# Altium integrated library Linear Technology Power Management Battery Management.IntLib: 626 symbols (part 14 of 56)
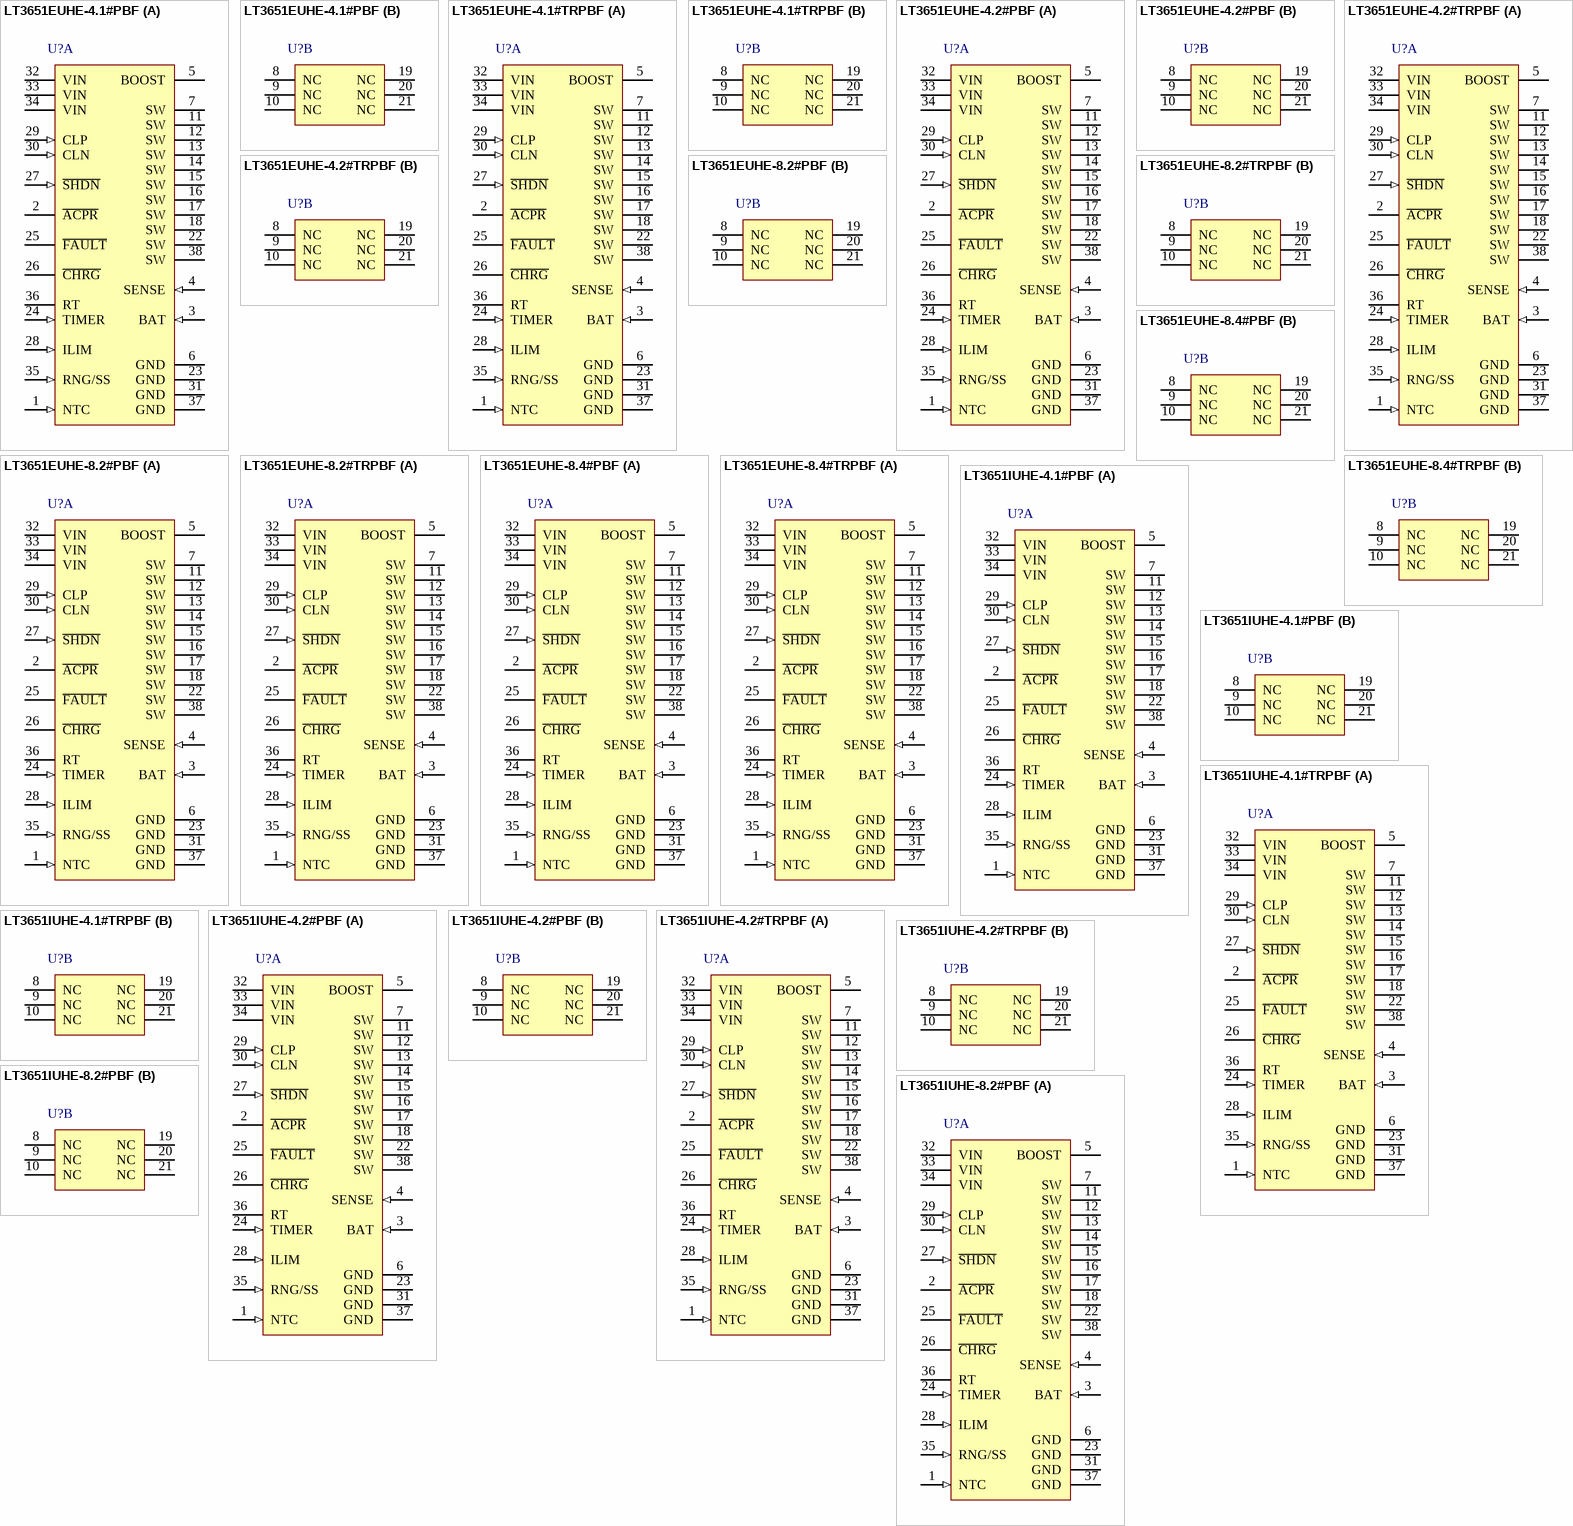
[diagram p35: symbols LT3651EUHE-4.1#PBF to LT3651IUHE-8.2#PBF]

## LT3651EUHE-4.2#PBF
designator U?
Monolithic 4 A Wide Input 1 Cell Li-Ion Battery Charger, 4.8 to 32 V Vin, 36-pin QFN (UHE-36), -40 to 125 degC, Pb-Free; Manufacturer: Linear Technology; PartNumber: LT3651EUHE-4.2#PBF; Battery Chemistry: Li-Ion, Li-Polymer; Charge Termination: C/10, Timer; Float Voltage: 4.2 V; Max Charge Current(A): 4; Number of Cells: 1; Type of Charger: Switching; Vin Max(V): 32; Vin Min(V): 4.8; DatasheetVersion: Rev. E; PackageVersion: Rev. A, 02/2012; PackageReference: UHE-36; PackageDescription: 36-Pin Plastic QFN, Body 5 x 6 mm, Pitch 0.5 mm; Supplier 1: Newark; Supplier Part Number 1: 84R6718; RoHS: TRUE; Mounting Technology: Surface Mount; ComponentLink1Description: Manufacturer URL; ComponentLink1URL: http://www.linear.com/; ComponentLink2Description: Datasheet; ComponentLink2URL: http://cds.linear.com/docs/en/datasheet/365142fe.pdf; ComponentLink3Description: Package Specification; ComponentLink3URL: http://cds.linear.com/docs/en/packaging/(UHE36MA)%20QFN%2005-08-1753%20Rev%20A.pdf
footprint LT-UHE-36_N (QFN, 36-Leads, Body 6.1x5.1mm, Pitch 0.5mm, IPC Medium Density)
footprint LT-UHE-36_L (QFN, 36-Leads, Body 6.1x5.1mm, Pitch 0.5mm, IPC High Density)
footprint LT-UHE-36_M (QFN, 36-Leads, Body 6.1x5.1mm, Pitch 0.5mm, IPC Low Density)
part A pins: 1 NTC (in) "Battery Temperature Monitor Pin.  This pin is used to monitor battery temperature. Typically a 10k ohm  NTC (negative temperature coefficient) thermistor (B = 3380) is embedded with the battery and connected from the NTC pin (See Datasheet)", 2 ~{ACPR} (oc) "Open-Collector AC Present Status Pin.  This pin sinks current to indicate that VIN is valid and the charger is on. Typically a resistor pull-up is used on this pin. This pin can be pulled up to voltages as high as VIN when (See Datasheet)", 3 BAT (in) "Battery Voltage Monitor Pin. This pin monitors battery voltage. A Kelvin connection is made to the battery from this pin and a decoupling capacitor (CBAT)  is placed from this pin to ground. The charge function operates to (See Datasheet)", 4 SENSE (in) "Charge Current Sense Pin. The charge current is monitored with a sense resistor (RSENSE) connected between this pin and the BAT pin. The inductor current flows through RSENSE to the battery. The voltage across this resistor (See Datasheet)", 5 BOOST "Bootstrapped Supply Rail for Switch Drive. This pin facilitates saturation of the high side switch transistor. Connect a 1uF or greater capacitor from the BOOST pin to the SW pin. The operating range of this pin is 0V to 8.(See Datasheet)", 6 GND (power) "Ground. These pins are the ground pins for the part.", 7 SW (power) "Switch Output Pin. These pins are the output of the charger switches. An inductor is connected between these pins and the SENSE pin. When the switcher is active, the inductor is charged by the high side switch from VIN and (See Datasheet)", 11 SW (power) "Switch Output Pin. These pins are the output of the charger switches. An inductor is connected between these pins and the SENSE pin. When the switcher is active, the inductor is charged by the high side switch from VIN and (See Datasheet)", 12 SW (power) "Switch Output Pin. These pins are the output of the charger switches. An inductor is connected between these pins and the SENSE pin. When the switcher is active, the inductor is charged by the high side switch from VIN and (See Datasheet)", 13 SW (power) "Switch Output Pin. These pins are the output of the charger switches. An inductor is connected between these pins and the SENSE pin. When the switcher is active, the inductor is charged by the high side switch from VIN and (See Datasheet)", 14 SW (power) "Switch Output Pin. These pins are the output of the charger switches. An inductor is connected between these pins and the SENSE pin. When the switcher is active, the inductor is charged by the high side switch from VIN and (See Datasheet)", 15 SW (power) "Switch Output Pin. These pins are the output of the charger switches. An inductor is connected between these pins and the SENSE pin. When the switcher is active, the inductor is charged by the high side switch from VIN and (See Datasheet)", 16 SW (power) "Switch Output Pin. These pins are the output of the charger switches. An inductor is connected between these pins and the SENSE pin. When the switcher is active, the inductor is charged by the high side switch from VIN and (See Datasheet)", 17 SW (power) "Switch Output Pin. These pins are the output of the charger switches. An inductor is connected between these pins and the SENSE pin. When the switcher is active, the inductor is charged by the high side switch from VIN and (See Datasheet)", 18 SW (power) "Switch Output Pin. These pins are the output of the charger switches. An inductor is connected between these pins and the SENSE pin. When the switcher is active, the inductor is charged by the high side switch from VIN and (See Datasheet)", 22 SW (power) "Switch Output Pin. These pins are the output of the charger switches. An inductor is connected between these pins and the SENSE pin. When the switcher is active, the inductor is charged by the high side switch from VIN and (See Datasheet)", 23 GND (power) "Ground. These pins are the ground pins for the part.", 24 TIMER (in) "End-Of-Cycle Timer Programming Pin.  A capacitor on this pin to ground determines the full charge end-of-cycle time. Full charge end-of-cycle time is programmed with this capacitor. A 3 hour charge cycle is obtained with a 0.(See Datasheet)", 25 ~{FAULT} (hiz) "Open-Collector Fault Status Output. This pin indicates charge cycle Fault conditions during a battery charging cycle. Typically a resistor pull-up is used on this pin. This status pin can be pulled up to voltages as high as (See Datasheet)", 26 ~{CHRG} (hiz) "Open-Collector Charger Status Output. This pin indicates the battery charging status. Typically a resistor pull-up is used on this pin. This status pin can be pulled up to voltages as high as VIN when disabled,  and can sink (See Datasheet)", 27 ~{SHDN} (in) "Shutdown Pin. This pin can be used for precision UVLO functions. When this pin rises above the 1.20V threshold, the part is enabled. The pin has 95mV of voltage hysteresis. When in shutdown mode, all charging functions are (See Datasheet)", 28 ILIM (in) "Input Current Limit Programming. This pin allows for setting and dynamic adjustment of the system input current limit, and can be used to employ a soft-start function. The voltage on this pin sets the maximum input current (See Datasheet)", 29 CLP (in), 30 CLN (in), 31 GND (power) "Ground. These pins are the ground pins for the part.", 32 VIN (power), 33 VIN (power), 34 VIN (power), 35 RNG/SS (in) "Charge Current Range and Soft-Start Pin. This pin allows for setting and dynamic adjustment of the maximum charge current, and can be used to employ a soft-start function. The voltage on this pin sets the maximumcharge (See Datasheet)", 36 RT "Switcher Oscillator Timer Set Pin. A resistor from this pin to ground sets the switcher oscillator frequency. Typically this is 54.9k for fOSC = 1MHz.", 37 GND (power) "Ground. These pins are the ground pins for the part.", 38 SW (power) "Switch Output Pin. These pins are the output of the charger switches. An inductor is connected between these pins and the SENSE pin. When the switcher is active, the inductor is charged by the high side switch from VIN and (See Datasheet)"
part B pins: 8 NC "No Connect. These pins can be left floating (not connected).", 9 NC "No Connect. These pins can be left floating (not connected).", 10 NC "No Connect. These pins can be left floating (not connected).", 19 NC "No Connect. These pins can be left floating (not connected).", 20 NC "No Connect. These pins can be left floating (not connected).", 21 NC "No Connect. These pins can be left floating (not connected)."

## LT3651EUHE-4.2#TRPBF
designator U?
Monolithic 4 A Wide Input 1 Cell Li-Ion Battery Charger, 4.8 to 32 V Vin, 36-pin QFN (UHE-36), -40 to 125 degC, Pb-Free, Tape and Reel; Manufacturer: Linear Technology; PartNumber: LT3651EUHE-4.2#TRPBF; Battery Chemistry: Li-Ion, Li-Polymer; Charge Termination: C/10, Timer; Float Voltage: 4.2 V; Max Charge Current(A): 4; Number of Cells: 1; Type of Charger: Switching; Vin Max(V): 32; Vin Min(V): 4.8; DatasheetVersion: Rev. E; PackageVersion: Rev. A, 02/2012; PackageReference: UHE-36; PackageDescription: 36-Pin Plastic QFN, Body 5 x 6 mm, Pitch 0.5 mm; Packing: Tape and Reel; RoHS: TRUE; Mounting Technology: Surface Mount; ComponentLink1Description: Manufacturer URL; ComponentLink1URL: http://www.linear.com/; ComponentLink2Description: Datasheet; ComponentLink2URL: http://cds.linear.com/docs/en/datasheet/365142fe.pdf; ComponentLink3Description: Package Specification; ComponentLink3URL: http://cds.linear.com/docs/en/packaging/(UHE36MA)%20QFN%2005-08-1753%20Rev%20A.pdf
footprint LT-UHE-36_N (QFN, 36-Leads, Body 6.1x5.1mm, Pitch 0.5mm, IPC Medium Density)
footprint LT-UHE-36_L (QFN, 36-Leads, Body 6.1x5.1mm, Pitch 0.5mm, IPC High Density)
footprint LT-UHE-36_M (QFN, 36-Leads, Body 6.1x5.1mm, Pitch 0.5mm, IPC Low Density)
part A pins: 1 NTC (in) "Battery Temperature Monitor Pin.  This pin is used to monitor battery temperature. Typically a 10k ohm  NTC (negative temperature coefficient) thermistor (B = 3380) is embedded with the battery and connected from the NTC pin (See Datasheet)", 2 ~{ACPR} (oc) "Open-Collector AC Present Status Pin.  This pin sinks current to indicate that VIN is valid and the charger is on. Typically a resistor pull-up is used on this pin. This pin can be pulled up to voltages as high as VIN when (See Datasheet)", 3 BAT (in) "Battery Voltage Monitor Pin. This pin monitors battery voltage. A Kelvin connection is made to the battery from this pin and a decoupling capacitor (CBAT)  is placed from this pin to ground. The charge function operates to (See Datasheet)", 4 SENSE (in) "Charge Current Sense Pin. The charge current is monitored with a sense resistor (RSENSE) connected between this pin and the BAT pin. The inductor current flows through RSENSE to the battery. The voltage across this resistor (See Datasheet)", 5 BOOST "Bootstrapped Supply Rail for Switch Drive. This pin facilitates saturation of the high side switch transistor. Connect a 1uF or greater capacitor from the BOOST pin to the SW pin. The operating range of this pin is 0V to 8.(See Datasheet)", 6 GND (power) "Ground. These pins are the ground pins for the part.", 7 SW (power) "Switch Output Pin. These pins are the output of the charger switches. An inductor is connected between these pins and the SENSE pin. When the switcher is active, the inductor is charged by the high side switch from VIN and (See Datasheet)", 11 SW (power) "Switch Output Pin. These pins are the output of the charger switches. An inductor is connected between these pins and the SENSE pin. When the switcher is active, the inductor is charged by the high side switch from VIN and (See Datasheet)", 12 SW (power) "Switch Output Pin. These pins are the output of the charger switches. An inductor is connected between these pins and the SENSE pin. When the switcher is active, the inductor is charged by the high side switch from VIN and (See Datasheet)", 13 SW (power) "Switch Output Pin. These pins are the output of the charger switches. An inductor is connected between these pins and the SENSE pin. When the switcher is active, the inductor is charged by the high side switch from VIN and (See Datasheet)", 14 SW (power) "Switch Output Pin. These pins are the output of the charger switches. An inductor is connected between these pins and the SENSE pin. When the switcher is active, the inductor is charged by the high side switch from VIN and (See Datasheet)", 15 SW (power) "Switch Output Pin. These pins are the output of the charger switches. An inductor is connected between these pins and the SENSE pin. When the switcher is active, the inductor is charged by the high side switch from VIN and (See Datasheet)", 16 SW (power) "Switch Output Pin. These pins are the output of the charger switches. An inductor is connected between these pins and the SENSE pin. When the switcher is active, the inductor is charged by the high side switch from VIN and (See Datasheet)", 17 SW (power) "Switch Output Pin. These pins are the output of the charger switches. An inductor is connected between these pins and the SENSE pin. When the switcher is active, the inductor is charged by the high side switch from VIN and (See Datasheet)", 18 SW (power) "Switch Output Pin. These pins are the output of the charger switches. An inductor is connected between these pins and the SENSE pin. When the switcher is active, the inductor is charged by the high side switch from VIN and (See Datasheet)", 22 SW (power) "Switch Output Pin. These pins are the output of the charger switches. An inductor is connected between these pins and the SENSE pin. When the switcher is active, the inductor is charged by the high side switch from VIN and (See Datasheet)", 23 GND (power) "Ground. These pins are the ground pins for the part.", 24 TIMER (in) "End-Of-Cycle Timer Programming Pin.  A capacitor on this pin to ground determines the full charge end-of-cycle time. Full charge end-of-cycle time is programmed with this capacitor. A 3 hour charge cycle is obtained with a 0.(See Datasheet)", 25 ~{FAULT} (hiz) "Open-Collector Fault Status Output. This pin indicates charge cycle Fault conditions during a battery charging cycle. Typically a resistor pull-up is used on this pin. This status pin can be pulled up to voltages as high as (See Datasheet)", 26 ~{CHRG} (hiz) "Open-Collector Charger Status Output. This pin indicates the battery charging status. Typically a resistor pull-up is used on this pin. This status pin can be pulled up to voltages as high as VIN when disabled,  and can sink (See Datasheet)", 27 ~{SHDN} (in) "Shutdown Pin. This pin can be used for precision UVLO functions. When this pin rises above the 1.20V threshold, the part is enabled. The pin has 95mV of voltage hysteresis. When in shutdown mode, all charging functions are (See Datasheet)", 28 ILIM (in) "Input Current Limit Programming. This pin allows for setting and dynamic adjustment of the system input current limit, and can be used to employ a soft-start function. The voltage on this pin sets the maximum input current (See Datasheet)", 29 CLP (in), 30 CLN (in), 31 GND (power) "Ground. These pins are the ground pins for the part.", 32 VIN (power), 33 VIN (power), 34 VIN (power), 35 RNG/SS (in) "Charge Current Range and Soft-Start Pin. This pin allows for setting and dynamic adjustment of the maximum charge current, and can be used to employ a soft-start function. The voltage on this pin sets the maximumcharge (See Datasheet)", 36 RT "Switcher Oscillator Timer Set Pin. A resistor from this pin to ground sets the switcher oscillator frequency. Typically this is 54.9k for fOSC = 1MHz.", 37 GND (power) "Ground. These pins are the ground pins for the part.", 38 SW (power) "Switch Output Pin. These pins are the output of the charger switches. An inductor is connected between these pins and the SENSE pin. When the switcher is active, the inductor is charged by the high side switch from VIN and (See Datasheet)"
part B pins: 8 NC "No Connect. These pins can be left floating (not connected).", 9 NC "No Connect. These pins can be left floating (not connected).", 10 NC "No Connect. These pins can be left floating (not connected).", 19 NC "No Connect. These pins can be left floating (not connected).", 20 NC "No Connect. These pins can be left floating (not connected).", 21 NC "No Connect. These pins can be left floating (not connected)."

## LT3651EUHE-8.2#PBF
designator U?
Monolithic 4 A High Voltage 2-Cell Li-Ion Battery Charger, 9 to 32 V Vin, 36-pin QFN (UHE-36), -40 to 125 degC, Pb-Free; Manufacturer: Linear Technology; PartNumber: LT3651EUHE-8.2#PBF; Battery Chemistry: Li-Ion, Li-Polymer; Charge Termination: C/10, Timer; Float Voltage: 8.2 V; Max Charge Current(A): 4; Number of Cells: 2; Type of Charger: Switching; Vin Max(V): 32; Vin Min(V): 9; PackageVersion: Rev. A, 02/2012; PackageReference: UHE-36; PackageDescription: 36-Pin Plastic QFN, Body 5 x 6 mm, Pitch 0.5 mm; Supplier 1: Digi-Key; Supplier Part Number 1: LT3651EUHE-8.2#PBF-ND; Supplier 2: Newark; Supplier Part Number 2: 56W0961; RoHS: TRUE; Mounting Technology: Surface Mount; ComponentLink1Description: Manufacturer URL; ComponentLink1URL: http://www.linear.com/; ComponentLink2Description: Datasheet; ComponentLink2URL: http://cds.linear.com/docs/en/datasheet/36518284f.pdf; ComponentLink3Description: Package Specification; ComponentLink3URL: http://cds.linear.com/docs/en/packaging/(UHE36MA)%20QFN%2005-08-1753%20Rev%20A.pdf
footprint LT-UHE-36_N (QFN, 36-Leads, Body 6.1x5.1mm, Pitch 0.5mm, IPC Medium Density)
footprint LT-UHE-36_L (QFN, 36-Leads, Body 6.1x5.1mm, Pitch 0.5mm, IPC High Density)
footprint LT-UHE-36_M (QFN, 36-Leads, Body 6.1x5.1mm, Pitch 0.5mm, IPC Low Density)
part A pins: 1 NTC (in) "Battery Temperature Monitor Pin.  This pin is used to monitor battery temperature. Typically a 10k ohm  NTC (negative temperature coefficient) thermistor (B = 3380) is embedded with the battery and connected from the NTC pin (See Datasheet)", 2 ~{ACPR} (oc) "Open-Collector AC Present Status Pin.  This pin sinks current to indicate that VIN is valid and the charger is on. Typically a resistor pull-up is used on this pin. This pin can be pulled up to voltages as high as VIN when (See Datasheet)", 3 BAT (in) "Battery Voltage Monitor Pin. This pin monitors battery voltage. A Kelvin connection is made to the battery from this pin and a decoupling capacitor (CBAT)  is placed from this pin to ground. The charge function operates to (See Datasheet)", 4 SENSE (in) "Charge Current Sense Pin. The charge current is monitored with a sense resistor (RSENSE) connected between this pin and the BAT pin. The inductor current flows through RSENSE to the battery. The voltage across this resistor (See Datasheet)", 5 BOOST "Bootstrapped Supply Rail for Switch Drive. This pin facilitates saturation of the high side switch transistor. Connect a 1uF or greater capacitor from the BOOST pin to the SW pin. The operating range of this pin is 0V to 8.(See Datasheet)", 6 GND (power) "Ground. These pins are the ground pins for the part.", 7 SW (power) "Switch Output Pin. These pins are the output of the charger switches. An inductor is connected between these pins and the SENSE pin. When the switcher is active, the inductor is charged by the high side switch from VIN and (See Datasheet)", 11 SW (power) "Switch Output Pin. These pins are the output of the charger switches. An inductor is connected between these pins and the SENSE pin. When the switcher is active, the inductor is charged by the high side switch from VIN and (See Datasheet)", 12 SW (power) "Switch Output Pin. These pins are the output of the charger switches. An inductor is connected between these pins and the SENSE pin. When the switcher is active, the inductor is charged by the high side switch from VIN and (See Datasheet)", 13 SW (power) "Switch Output Pin. These pins are the output of the charger switches. An inductor is connected between these pins and the SENSE pin. When the switcher is active, the inductor is charged by the high side switch from VIN and (See Datasheet)", 14 SW (power) "Switch Output Pin. These pins are the output of the charger switches. An inductor is connected between these pins and the SENSE pin. When the switcher is active, the inductor is charged by the high side switch from VIN and (See Datasheet)", 15 SW (power) "Switch Output Pin. These pins are the output of the charger switches. An inductor is connected between these pins and the SENSE pin. When the switcher is active, the inductor is charged by the high side switch from VIN and (See Datasheet)", 16 SW (power) "Switch Output Pin. These pins are the output of the charger switches. An inductor is connected between these pins and the SENSE pin. When the switcher is active, the inductor is charged by the high side switch from VIN and (See Datasheet)", 17 SW (power) "Switch Output Pin. These pins are the output of the charger switches. An inductor is connected between these pins and the SENSE pin. When the switcher is active, the inductor is charged by the high side switch from VIN and (See Datasheet)", 18 SW (power) "Switch Output Pin. These pins are the output of the charger switches. An inductor is connected between these pins and the SENSE pin. When the switcher is active, the inductor is charged by the high side switch from VIN and (See Datasheet)", 22 SW (power) "Switch Output Pin. These pins are the output of the charger switches. An inductor is connected between these pins and the SENSE pin. When the switcher is active, the inductor is charged by the high side switch from VIN and (See Datasheet)", 23 GND (power) "Ground. These pins are the ground pins for the part.", 24 TIMER (in) "End-Of-Cycle Timer Programming Pin.  A capacitor on this pin to ground determines the full charge end-of-cycle time. Full charge end-of-cycle time is programmed with this capacitor. A 3 hour charge cycle is obtained with a 0.(See Datasheet)", 25 ~{FAULT} (hiz) "Open-Collector Fault Status Output. This pin indicates charge cycle Fault conditions during a battery charging cycle. Typically a resistor pull-up is used on this pin. This status pin can be pulled up to voltages as high as (See Datasheet)", 26 ~{CHRG} (hiz) "Open-Collector Charger Status Output. This pin indicates the battery charging status. Typically a resistor pull-up is used on this pin. This status pin can be pulled up to voltages as high as VIN when disabled,  and can sink (See Datasheet)", 27 ~{SHDN} (in) "Shutdown Pin. This pin can be used for precision UVLO functions. When this pin rises above the 1.20V threshold, the part is enabled. The pin has 95mV of voltage hysteresis. When in shutdown mode, all charging functions are (See Datasheet)", 28 ILIM (in) "Input Current Limit Programming. This pin allows for setting and dynamic adjustment of the system input current limit, and can be used to employ a soft-start function. The voltage on this pin sets the maximum input current (See Datasheet)", 29 CLP (in), 30 CLN (in), 31 GND (power) "Ground. These pins are the ground pins for the part.", 32 VIN (power), 33 VIN (power), 34 VIN (power), 35 RNG/SS (in) "Charge Current Range and Soft-Start Pin. This pin allows for setting and dynamic adjustment of the maximum charge current, and can be used to employ a soft-start function. The voltage on this pin sets the maximumcharge (See Datasheet)", 36 RT "Switcher Oscillator Timer Set Pin. A resistor from this pin to ground sets the switcher oscillator frequency. Typically this is 54.9k for fOSC = 1MHz.", 37 GND (power) "Ground. These pins are the ground pins for the part.", 38 SW (power) "Switch Output Pin. These pins are the output of the charger switches. An inductor is connected between these pins and the SENSE pin. When the switcher is active, the inductor is charged by the high side switch from VIN and (See Datasheet)"
part B pins: 8 NC "No Connect. These pins can be left floating (not connected).", 9 NC "No Connect. These pins can be left floating (not connected).", 10 NC "No Connect. These pins can be left floating (not connected).", 19 NC "No Connect. These pins can be left floating (not connected).", 20 NC "No Connect. These pins can be left floating (not connected).", 21 NC "No Connect. These pins can be left floating (not connected)."

## LT3651EUHE-8.2#TRPBF
designator U?
Monolithic 4 A High Voltage 2-Cell Li-Ion Battery Charger, 9 to 32 V Vin, 36-pin QFN (UHE-36), -40 to 125 degC, Pb-Free, Tape and Reel; Manufacturer: Linear Technology; PartNumber: LT3651EUHE-8.2#TRPBF; Battery Chemistry: Li-Ion, Li-Polymer; Charge Termination: C/10, Timer; Float Voltage: 8.2 V; Max Charge Current(A): 4; Number of Cells: 2; Type of Charger: Switching; Vin Max(V): 32; Vin Min(V): 9; PackageVersion: Rev. A, 02/2012; PackageReference: UHE-36; PackageDescription: 36-Pin Plastic QFN, Body 5 x 6 mm, Pitch 0.5 mm; Supplier 1: Digi-Key; Supplier Part Number 1: LT3651EUHE-8.2#TRPBF-ND; Supplier 2: Newark; Supplier Part Number 2: 56W0962; Packing: Tape and Reel; RoHS: TRUE; Mounting Technology: Surface Mount; ComponentLink1Description: Manufacturer URL; ComponentLink1URL: http://www.linear.com/; ComponentLink2Description: Datasheet; ComponentLink2URL: http://cds.linear.com/docs/en/datasheet/36518284f.pdf; ComponentLink3Description: Package Specification; ComponentLink3URL: http://cds.linear.com/docs/en/packaging/(UHE36MA)%20QFN%2005-08-1753%20Rev%20A.pdf
footprint LT-UHE-36_N (QFN, 36-Leads, Body 6.1x5.1mm, Pitch 0.5mm, IPC Medium Density)
footprint LT-UHE-36_L (QFN, 36-Leads, Body 6.1x5.1mm, Pitch 0.5mm, IPC High Density)
footprint LT-UHE-36_M (QFN, 36-Leads, Body 6.1x5.1mm, Pitch 0.5mm, IPC Low Density)
part A pins: 1 NTC (in) "Battery Temperature Monitor Pin.  This pin is used to monitor battery temperature. Typically a 10k ohm  NTC (negative temperature coefficient) thermistor (B = 3380) is embedded with the battery and connected from the NTC pin (See Datasheet)", 2 ~{ACPR} (oc) "Open-Collector AC Present Status Pin.  This pin sinks current to indicate that VIN is valid and the charger is on. Typically a resistor pull-up is used on this pin. This pin can be pulled up to voltages as high as VIN when (See Datasheet)", 3 BAT (in) "Battery Voltage Monitor Pin. This pin monitors battery voltage. A Kelvin connection is made to the battery from this pin and a decoupling capacitor (CBAT)  is placed from this pin to ground. The charge function operates to (See Datasheet)", 4 SENSE (in) "Charge Current Sense Pin. The charge current is monitored with a sense resistor (RSENSE) connected between this pin and the BAT pin. The inductor current flows through RSENSE to the battery. The voltage across this resistor (See Datasheet)", 5 BOOST "Bootstrapped Supply Rail for Switch Drive. This pin facilitates saturation of the high side switch transistor. Connect a 1uF or greater capacitor from the BOOST pin to the SW pin. The operating range of this pin is 0V to 8.(See Datasheet)", 6 GND (power) "Ground. These pins are the ground pins for the part.", 7 SW (power) "Switch Output Pin. These pins are the output of the charger switches. An inductor is connected between these pins and the SENSE pin. When the switcher is active, the inductor is charged by the high side switch from VIN and (See Datasheet)", 11 SW (power) "Switch Output Pin. These pins are the output of the charger switches. An inductor is connected between these pins and the SENSE pin. When the switcher is active, the inductor is charged by the high side switch from VIN and (See Datasheet)", 12 SW (power) "Switch Output Pin. These pins are the output of the charger switches. An inductor is connected between these pins and the SENSE pin. When the switcher is active, the inductor is charged by the high side switch from VIN and (See Datasheet)", 13 SW (power) "Switch Output Pin. These pins are the output of the charger switches. An inductor is connected between these pins and the SENSE pin. When the switcher is active, the inductor is charged by the high side switch from VIN and (See Datasheet)", 14 SW (power) "Switch Output Pin. These pins are the output of the charger switches. An inductor is connected between these pins and the SENSE pin. When the switcher is active, the inductor is charged by the high side switch from VIN and (See Datasheet)", 15 SW (power) "Switch Output Pin. These pins are the output of the charger switches. An inductor is connected between these pins and the SENSE pin. When the switcher is active, the inductor is charged by the high side switch from VIN and (See Datasheet)", 16 SW (power) "Switch Output Pin. These pins are the output of the charger switches. An inductor is connected between these pins and the SENSE pin. When the switcher is active, the inductor is charged by the high side switch from VIN and (See Datasheet)", 17 SW (power) "Switch Output Pin. These pins are the output of the charger switches. An inductor is connected between these pins and the SENSE pin. When the switcher is active, the inductor is charged by the high side switch from VIN and (See Datasheet)", 18 SW (power) "Switch Output Pin. These pins are the output of the charger switches. An inductor is connected between these pins and the SENSE pin. When the switcher is active, the inductor is charged by the high side switch from VIN and (See Datasheet)", 22 SW (power) "Switch Output Pin. These pins are the output of the charger switches. An inductor is connected between these pins and the SENSE pin. When the switcher is active, the inductor is charged by the high side switch from VIN and (See Datasheet)", 23 GND (power) "Ground. These pins are the ground pins for the part.", 24 TIMER (in) "End-Of-Cycle Timer Programming Pin.  A capacitor on this pin to ground determines the full charge end-of-cycle time. Full charge end-of-cycle time is programmed with this capacitor. A 3 hour charge cycle is obtained with a 0.(See Datasheet)", 25 ~{FAULT} (hiz) "Open-Collector Fault Status Output. This pin indicates charge cycle Fault conditions during a battery charging cycle. Typically a resistor pull-up is used on this pin. This status pin can be pulled up to voltages as high as (See Datasheet)", 26 ~{CHRG} (hiz) "Open-Collector Charger Status Output. This pin indicates the battery charging status. Typically a resistor pull-up is used on this pin. This status pin can be pulled up to voltages as high as VIN when disabled,  and can sink (See Datasheet)", 27 ~{SHDN} (in) "Shutdown Pin. This pin can be used for precision UVLO functions. When this pin rises above the 1.20V threshold, the part is enabled. The pin has 95mV of voltage hysteresis. When in shutdown mode, all charging functions are (See Datasheet)", 28 ILIM (in) "Input Current Limit Programming. This pin allows for setting and dynamic adjustment of the system input current limit, and can be used to employ a soft-start function. The voltage on this pin sets the maximum input current (See Datasheet)", 29 CLP (in), 30 CLN (in), 31 GND (power) "Ground. These pins are the ground pins for the part.", 32 VIN (power), 33 VIN (power), 34 VIN (power), 35 RNG/SS (in) "Charge Current Range and Soft-Start Pin. This pin allows for setting and dynamic adjustment of the maximum charge current, and can be used to employ a soft-start function. The voltage on this pin sets the maximumcharge (See Datasheet)", 36 RT "Switcher Oscillator Timer Set Pin. A resistor from this pin to ground sets the switcher oscillator frequency. Typically this is 54.9k for fOSC = 1MHz.", 37 GND (power) "Ground. These pins are the ground pins for the part.", 38 SW (power) "Switch Output Pin. These pins are the output of the charger switches. An inductor is connected between these pins and the SENSE pin. When the switcher is active, the inductor is charged by the high side switch from VIN and (See Datasheet)"
part B pins: 8 NC "No Connect. These pins can be left floating (not connected).", 9 NC "No Connect. These pins can be left floating (not connected).", 10 NC "No Connect. These pins can be left floating (not connected).", 19 NC "No Connect. These pins can be left floating (not connected).", 20 NC "No Connect. These pins can be left floating (not connected).", 21 NC "No Connect. These pins can be left floating (not connected)."

## LT3651EUHE-8.4#PBF
designator U?
Monolithic 4 A High Voltage 2-Cell Li-Ion Battery Charger, 9 to 32 V Vin, 36-pin QFN (UHE-36), -40 to 125 degC, Pb-Free; Manufacturer: Linear Technology; PartNumber: LT3651EUHE-8.4#PBF; Battery Chemistry: Li-Ion, Li-Polymer; Charge Termination: C/10, Timer; Float Voltage: 8.4 V; Max Charge Current(A): 4; Number of Cells: 2; Type of Charger: Switching; Vin Max(V): 32; Vin Min(V): 9; PackageVersion: Rev. A, 02/2012; PackageReference: UHE-36; PackageDescription: 36-Pin Plastic QFN, Body 5 x 6 mm, Pitch 0.5 mm; Supplier 1: Digi-Key; Supplier Part Number 1: LT3651EUHE-8.4#PBF-ND; Supplier 2: Newark; Supplier Part Number 2: 56W0963; RoHS: TRUE; Mounting Technology: Surface Mount; ComponentLink1Description: Manufacturer URL; ComponentLink1URL: http://www.linear.com/; ComponentLink2Description: Datasheet; ComponentLink2URL: http://cds.linear.com/docs/en/datasheet/36518284f.pdf; ComponentLink3Description: Package Specification; ComponentLink3URL: http://cds.linear.com/docs/en/packaging/(UHE36MA)%20QFN%2005-08-1753%20Rev%20A.pdf
footprint LT-UHE-36_N (QFN, 36-Leads, Body 6.1x5.1mm, Pitch 0.5mm, IPC Medium Density)
footprint LT-UHE-36_L (QFN, 36-Leads, Body 6.1x5.1mm, Pitch 0.5mm, IPC High Density)
footprint LT-UHE-36_M (QFN, 36-Leads, Body 6.1x5.1mm, Pitch 0.5mm, IPC Low Density)
part A pins: 1 NTC (in) "Battery Temperature Monitor Pin.  This pin is used to monitor battery temperature. Typically a 10k ohm  NTC (negative temperature coefficient) thermistor (B = 3380) is embedded with the battery and connected from the NTC pin (See Datasheet)", 2 ~{ACPR} (oc) "Open-Collector AC Present Status Pin.  This pin sinks current to indicate that VIN is valid and the charger is on. Typically a resistor pull-up is used on this pin. This pin can be pulled up to voltages as high as VIN when (See Datasheet)", 3 BAT (in) "Battery Voltage Monitor Pin. This pin monitors battery voltage. A Kelvin connection is made to the battery from this pin and a decoupling capacitor (CBAT)  is placed from this pin to ground. The charge function operates to (See Datasheet)", 4 SENSE (in) "Charge Current Sense Pin. The charge current is monitored with a sense resistor (RSENSE) connected between this pin and the BAT pin. The inductor current flows through RSENSE to the battery. The voltage across this resistor (See Datasheet)", 5 BOOST "Bootstrapped Supply Rail for Switch Drive. This pin facilitates saturation of the high side switch transistor. Connect a 1uF or greater capacitor from the BOOST pin to the SW pin. The operating range of this pin is 0V to 8.(See Datasheet)", 6 GND (power) "Ground. These pins are the ground pins for the part.", 7 SW (power) "Switch Output Pin. These pins are the output of the charger switches. An inductor is connected between these pins and the SENSE pin. When the switcher is active, the inductor is charged by the high side switch from VIN and (See Datasheet)", 11 SW (power) "Switch Output Pin. These pins are the output of the charger switches. An inductor is connected between these pins and the SENSE pin. When the switcher is active, the inductor is charged by the high side switch from VIN and (See Datasheet)", 12 SW (power) "Switch Output Pin. These pins are the output of the charger switches. An inductor is connected between these pins and the SENSE pin. When the switcher is active, the inductor is charged by the high side switch from VIN and (See Datasheet)", 13 SW (power) "Switch Output Pin. These pins are the output of the charger switches. An inductor is connected between these pins and the SENSE pin. When the switcher is active, the inductor is charged by the high side switch from VIN and (See Datasheet)", 14 SW (power) "Switch Output Pin. These pins are the output of the charger switches. An inductor is connected between these pins and the SENSE pin. When the switcher is active, the inductor is charged by the high side switch from VIN and (See Datasheet)", 15 SW (power) "Switch Output Pin. These pins are the output of the charger switches. An inductor is connected between these pins and the SENSE pin. When the switcher is active, the inductor is charged by the high side switch from VIN and (See Datasheet)", 16 SW (power) "Switch Output Pin. These pins are the output of the charger switches. An inductor is connected between these pins and the SENSE pin. When the switcher is active, the inductor is charged by the high side switch from VIN and (See Datasheet)", 17 SW (power) "Switch Output Pin. These pins are the output of the charger switches. An inductor is connected between these pins and the SENSE pin. When the switcher is active, the inductor is charged by the high side switch from VIN and (See Datasheet)", 18 SW (power) "Switch Output Pin. These pins are the output of the charger switches. An inductor is connected between these pins and the SENSE pin. When the switcher is active, the inductor is charged by the high side switch from VIN and (See Datasheet)", 22 SW (power) "Switch Output Pin. These pins are the output of the charger switches. An inductor is connected between these pins and the SENSE pin. When the switcher is active, the inductor is charged by the high side switch from VIN and (See Datasheet)", 23 GND (power) "Ground. These pins are the ground pins for the part.", 24 TIMER (in) "End-Of-Cycle Timer Programming Pin.  A capacitor on this pin to ground determines the full charge end-of-cycle time. Full charge end-of-cycle time is programmed with this capacitor. A 3 hour charge cycle is obtained with a 0.(See Datasheet)", 25 ~{FAULT} (hiz) "Open-Collector Fault Status Output. This pin indicates charge cycle Fault conditions during a battery charging cycle. Typically a resistor pull-up is used on this pin. This status pin can be pulled up to voltages as high as (See Datasheet)", 26 ~{CHRG} (hiz) "Open-Collector Charger Status Output. This pin indicates the battery charging status. Typically a resistor pull-up is used on this pin. This status pin can be pulled up to voltages as high as VIN when disabled,  and can sink (See Datasheet)", 27 ~{SHDN} (in) "Shutdown Pin. This pin can be used for precision UVLO functions. When this pin rises above the 1.20V threshold, the part is enabled. The pin has 95mV of voltage hysteresis. When in shutdown mode, all charging functions are (See Datasheet)", 28 ILIM (in) "Input Current Limit Programming. This pin allows for setting and dynamic adjustment of the system input current limit, and can be used to employ a soft-start function. The voltage on this pin sets the maximum input current (See Datasheet)", 29 CLP (in), 30 CLN (in), 31 GND (power) "Ground. These pins are the ground pins for the part.", 32 VIN (power), 33 VIN (power), 34 VIN (power), 35 RNG/SS (in) "Charge Current Range and Soft-Start Pin. This pin allows for setting and dynamic adjustment of the maximum charge current, and can be used to employ a soft-start function. The voltage on this pin sets the maximumcharge (See Datasheet)", 36 RT "Switcher Oscillator Timer Set Pin. A resistor from this pin to ground sets the switcher oscillator frequency. Typically this is 54.9k for fOSC = 1MHz.", 37 GND (power) "Ground. These pins are the ground pins for the part.", 38 SW (power) "Switch Output Pin. These pins are the output of the charger switches. An inductor is connected between these pins and the SENSE pin. When the switcher is active, the inductor is charged by the high side switch from VIN and (See Datasheet)"
part B pins: 8 NC "No Connect. These pins can be left floating (not connected).", 9 NC "No Connect. These pins can be left floating (not connected).", 10 NC "No Connect. These pins can be left floating (not connected).", 19 NC "No Connect. These pins can be left floating (not connected).", 20 NC "No Connect. These pins can be left floating (not connected).", 21 NC "No Connect. These pins can be left floating (not connected)."

## LT3651EUHE-8.4#TRPBF
designator U?
Monolithic 4 A High Voltage 2-Cell Li-Ion Battery Charger, 9 to 32 V Vin, 36-pin QFN (UHE-36), -40 to 125 degC, Pb-Free, Tape and Reel; Manufacturer: Linear Technology; PartNumber: LT3651EUHE-8.4#TRPBF; Battery Chemistry: Li-Ion, Li-Polymer; Charge Termination: C/10, Timer; Float Voltage: 8.4 V; Max Charge Current(A): 4; Number of Cells: 2; Type of Charger: Switching; Vin Max(V): 32; Vin Min(V): 9; PackageVersion: Rev. A, 02/2012; PackageReference: UHE-36; PackageDescription: 36-Pin Plastic QFN, Body 5 x 6 mm, Pitch 0.5 mm; Supplier 1: Digi-Key; Supplier Part Number 1: LT3651EUHE-8.4#TRPBF-ND; Supplier 2: Newark; Supplier Part Number 2: 56W0964; Packing: Tape and Reel; RoHS: TRUE; Mounting Technology: Surface Mount; ComponentLink1Description: Manufacturer URL; ComponentLink1URL: http://www.linear.com/; ComponentLink2Description: Datasheet; ComponentLink2URL: http://cds.linear.com/docs/en/datasheet/36518284f.pdf; ComponentLink3Description: Package Specification; ComponentLink3URL: http://cds.linear.com/docs/en/packaging/(UHE36MA)%20QFN%2005-08-1753%20Rev%20A.pdf
footprint LT-UHE-36_N (QFN, 36-Leads, Body 6.1x5.1mm, Pitch 0.5mm, IPC Medium Density)
footprint LT-UHE-36_L (QFN, 36-Leads, Body 6.1x5.1mm, Pitch 0.5mm, IPC High Density)
footprint LT-UHE-36_M (QFN, 36-Leads, Body 6.1x5.1mm, Pitch 0.5mm, IPC Low Density)
part A pins: 1 NTC (in) "Battery Temperature Monitor Pin.  This pin is used to monitor battery temperature. Typically a 10k ohm  NTC (negative temperature coefficient) thermistor (B = 3380) is embedded with the battery and connected from the NTC pin (See Datasheet)", 2 ~{ACPR} (oc) "Open-Collector AC Present Status Pin.  This pin sinks current to indicate that VIN is valid and the charger is on. Typically a resistor pull-up is used on this pin. This pin can be pulled up to voltages as high as VIN when (See Datasheet)", 3 BAT (in) "Battery Voltage Monitor Pin. This pin monitors battery voltage. A Kelvin connection is made to the battery from this pin and a decoupling capacitor (CBAT)  is placed from this pin to ground. The charge function operates to (See Datasheet)", 4 SENSE (in) "Charge Current Sense Pin. The charge current is monitored with a sense resistor (RSENSE) connected between this pin and the BAT pin. The inductor current flows through RSENSE to the battery. The voltage across this resistor (See Datasheet)", 5 BOOST "Bootstrapped Supply Rail for Switch Drive. This pin facilitates saturation of the high side switch transistor. Connect a 1uF or greater capacitor from the BOOST pin to the SW pin. The operating range of this pin is 0V to 8.(See Datasheet)", 6 GND (power) "Ground. These pins are the ground pins for the part.", 7 SW (power) "Switch Output Pin. These pins are the output of the charger switches. An inductor is connected between these pins and the SENSE pin. When the switcher is active, the inductor is charged by the high side switch from VIN and (See Datasheet)", 11 SW (power) "Switch Output Pin. These pins are the output of the charger switches. An inductor is connected between these pins and the SENSE pin. When the switcher is active, the inductor is charged by the high side switch from VIN and (See Datasheet)", 12 SW (power) "Switch Output Pin. These pins are the output of the charger switches. An inductor is connected between these pins and the SENSE pin. When the switcher is active, the inductor is charged by the high side switch from VIN and (See Datasheet)", 13 SW (power) "Switch Output Pin. These pins are the output of the charger switches. An inductor is connected between these pins and the SENSE pin. When the switcher is active, the inductor is charged by the high side switch from VIN and (See Datasheet)", 14 SW (power) "Switch Output Pin. These pins are the output of the charger switches. An inductor is connected between these pins and the SENSE pin. When the switcher is active, the inductor is charged by the high side switch from VIN and (See Datasheet)", 15 SW (power) "Switch Output Pin. These pins are the output of the charger switches. An inductor is connected between these pins and the SENSE pin. When the switcher is active, the inductor is charged by the high side switch from VIN and (See Datasheet)", 16 SW (power) "Switch Output Pin. These pins are the output of the charger switches. An inductor is connected between these pins and the SENSE pin. When the switcher is active, the inductor is charged by the high side switch from VIN and (See Datasheet)", 17 SW (power) "Switch Output Pin. These pins are the output of the charger switches. An inductor is connected between these pins and the SENSE pin. When the switcher is active, the inductor is charged by the high side switch from VIN and (See Datasheet)", 18 SW (power) "Switch Output Pin. These pins are the output of the charger switches. An inductor is connected between these pins and the SENSE pin. When the switcher is active, the inductor is charged by the high side switch from VIN and (See Datasheet)", 22 SW (power) "Switch Output Pin. These pins are the output of the charger switches. An inductor is connected between these pins and the SENSE pin. When the switcher is active, the inductor is charged by the high side switch from VIN and (See Datasheet)", 23 GND (power) "Ground. These pins are the ground pins for the part.", 24 TIMER (in) "End-Of-Cycle Timer Programming Pin.  A capacitor on this pin to ground determines the full charge end-of-cycle time. Full charge end-of-cycle time is programmed with this capacitor. A 3 hour charge cycle is obtained with a 0.(See Datasheet)", 25 ~{FAULT} (hiz) "Open-Collector Fault Status Output. This pin indicates charge cycle Fault conditions during a battery charging cycle. Typically a resistor pull-up is used on this pin. This status pin can be pulled up to voltages as high as (See Datasheet)", 26 ~{CHRG} (hiz) "Open-Collector Charger Status Output. This pin indicates the battery charging status. Typically a resistor pull-up is used on this pin. This status pin can be pulled up to voltages as high as VIN when disabled,  and can sink (See Datasheet)", 27 ~{SHDN} (in) "Shutdown Pin. This pin can be used for precision UVLO functions. When this pin rises above the 1.20V threshold, the part is enabled. The pin has 95mV of voltage hysteresis. When in shutdown mode, all charging functions are (See Datasheet)", 28 ILIM (in) "Input Current Limit Programming. This pin allows for setting and dynamic adjustment of the system input current limit, and can be used to employ a soft-start function. The voltage on this pin sets the maximum input current (See Datasheet)", 29 CLP (in), 30 CLN (in), 31 GND (power) "Ground. These pins are the ground pins for the part.", 32 VIN (power), 33 VIN (power), 34 VIN (power), 35 RNG/SS (in) "Charge Current Range and Soft-Start Pin. This pin allows for setting and dynamic adjustment of the maximum charge current, and can be used to employ a soft-start function. The voltage on this pin sets the maximumcharge (See Datasheet)", 36 RT "Switcher Oscillator Timer Set Pin. A resistor from this pin to ground sets the switcher oscillator frequency. Typically this is 54.9k for fOSC = 1MHz.", 37 GND (power) "Ground. These pins are the ground pins for the part.", 38 SW (power) "Switch Output Pin. These pins are the output of the charger switches. An inductor is connected between these pins and the SENSE pin. When the switcher is active, the inductor is charged by the high side switch from VIN and (See Datasheet)"
part B pins: 8 NC "No Connect. These pins can be left floating (not connected).", 9 NC "No Connect. These pins can be left floating (not connected).", 10 NC "No Connect. These pins can be left floating (not connected).", 19 NC "No Connect. These pins can be left floating (not connected).", 20 NC "No Connect. These pins can be left floating (not connected).", 21 NC "No Connect. These pins can be left floating (not connected)."